# Altium schematic symbol library GTFP08432B1HR.SchLib: 1 symbol
Pins are listed as number, name and electrical type; pins without a type are passive.

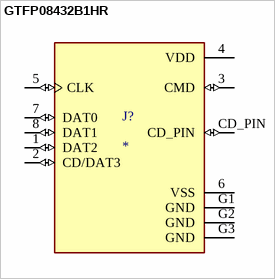
[diagram p0: symbol GTFP08432B1HR]

## GTFP08432B1HR
designator J?
Micro SD and SD Card Sockets, Input Output Connectors, Micro SD Socket, 8 Position,Push Push, LCP Black; MF: Amphenol; MP: GTFP08432B1HR; Package: None; Price: None; Check_prices: https://www.snapeda.com/parts/GTFP08432B1HR/Amphenol/view-part/?ref=eda; Value: *; SnapEDA_Link: https://www.snapeda.com/parts/GTFP08432B1HR/Amphenol/view-part/?ref=snap; Availability: In Stock; Purchase-URL: https://pricing.snapeda.com/search?q=GTFP08432B1HR&ref=eda
footprint AMPHENOL_GTFP08432B1HR
pins: 1 DAT2 (io), 2 CD/DAT3 (io), 3 CMD (io), 4 VDD (power), 5 CLK (io), 6 VSS (power), 7 DAT0 (io), 8 DAT1 (io), CD_PIN (io), G1 GND (power), G2 GND (power), G3 GND (power)